# Altium schematic symbol library wurth_dc_jack_694106402002.SchLib: 2 symbols
Pins are listed as number, name and electrical type; pins without a type are passive.

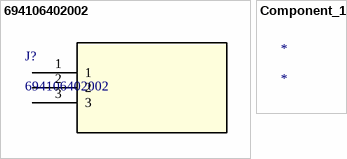
[diagram p0: symbols 694106402002 to Component_1]

## 694106402002
designator J?
No Description Available; Mfr_Name: Wurth Electronics; Copyright: Copyright (C) 2022 Ultra Librarian. All rights reserved.; Manufacturer_Part_Number: 694106402002; Digi-Key_Part_Number_1: 732-5931-ND; RefDes: RefDes; Type: DEV
footprint CONN3_402002_WRE
pins: 1, 2, 3

## Component_1
designator *